# Altium footprint library YaoPCB.PCBLIB: 415 footprints (part 12 of 26)
Each footprint in its own frame and in the unit in brackets; x right, y up, seen from the top. Pads: shape width x height; smd on the part's side, far side on the other; paste and mask are expansions set on the pad; w line width, h text height; cw(c..) or ccw(c..) is an arc to the next point about the centre after c.
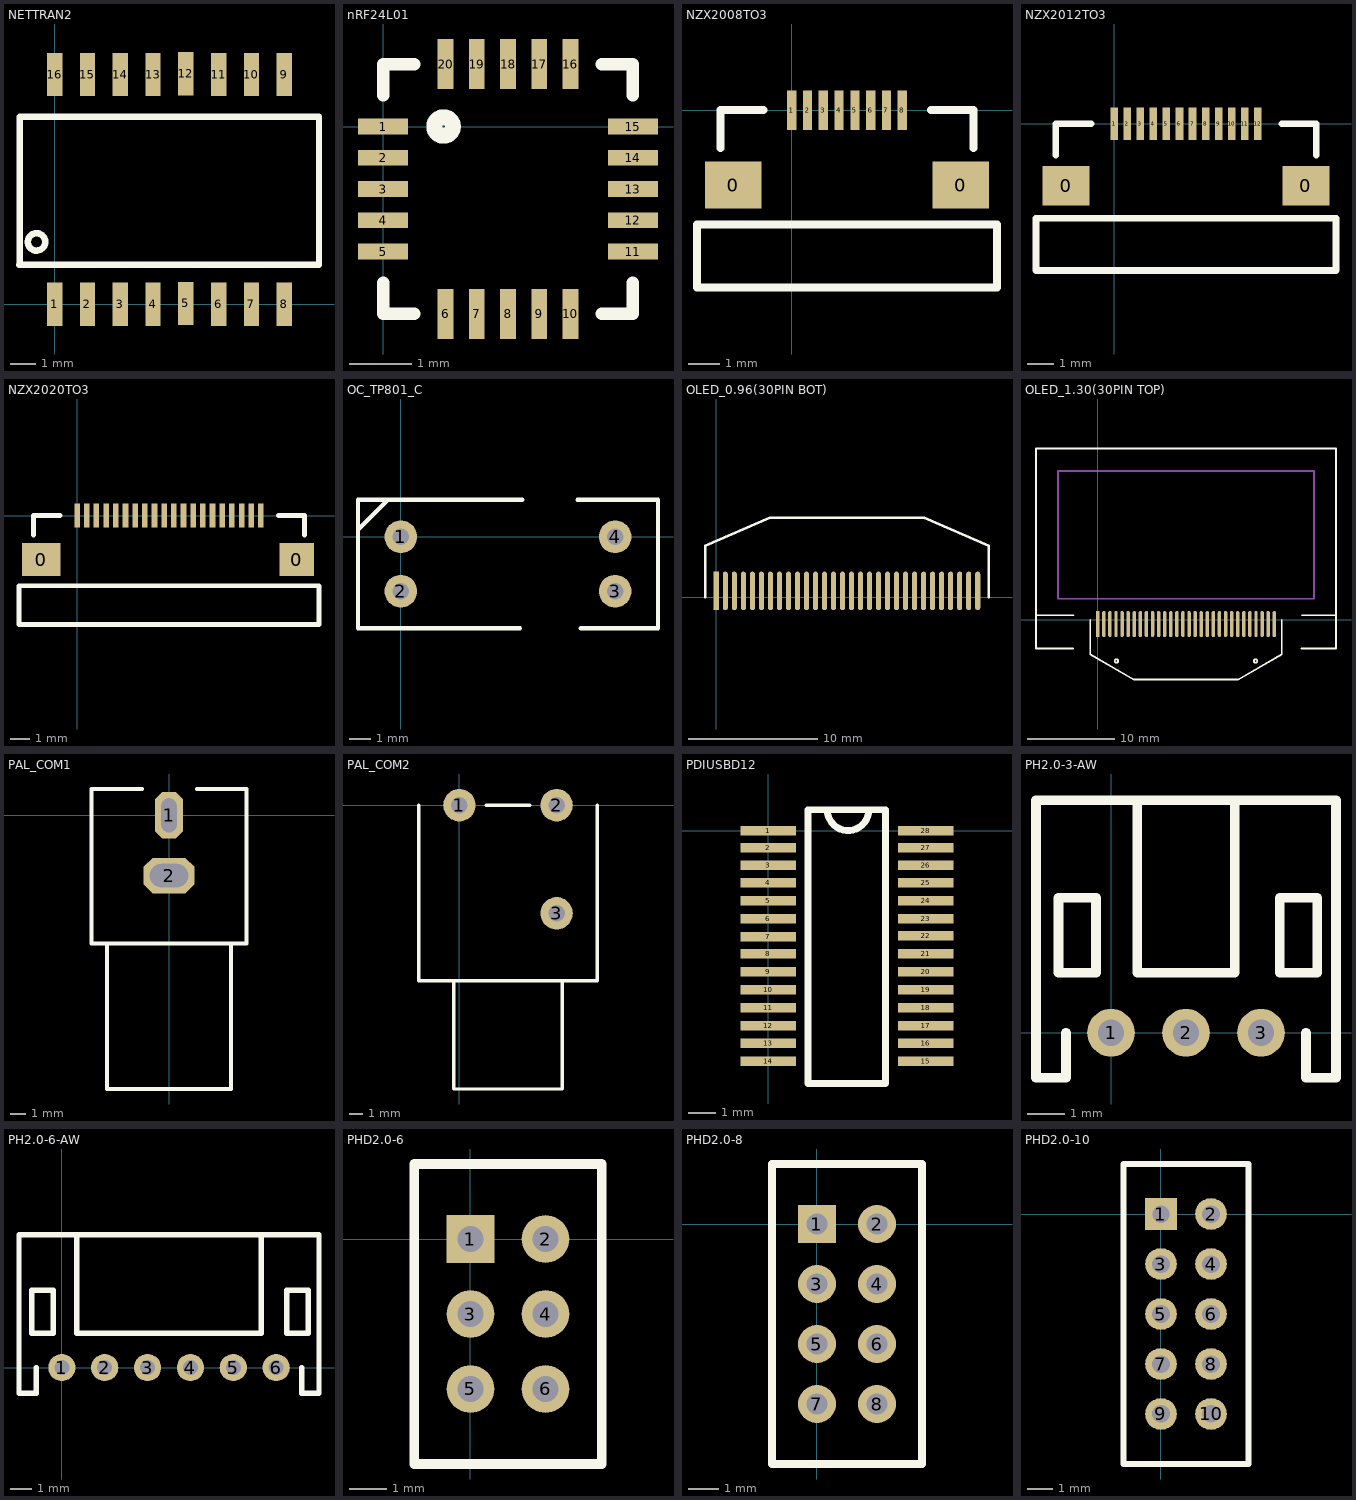
[diagram p11: the footprints below, top view; thin cyan lines are the x and y axes]

## NETTRAN2 [mm]
pads (16):
  rect 0.6x1.7 smd: 1(0,0) 2(1.286,0) 3(2.571,0) 4(3.857,0) 5(5.143,0.025) 6(6.429,0) 7(7.714,0) 8(9,0) 9(9,9) 10(7.714,9) 11(6.429,9) 12(5.143,9.025) 13(3.857,9) 14(2.571,9) 15(1.286,9) 16(0,9)
TopOverlay:
  circle w0.254: c-0.711,2.438 r0.342
  lines w0.254: -1.397,1.55 10.362,1.55 10.362,7.342 -1.372,7.342 -1.372,1.55

## nRF24L01 [mm]
pads (20):
  rect 0.8x0.25 smd: 1(0,0) 2(0,-0.5) 3(0,-1) 4(0,-1.5) 5(0,-2) 11(4,-2) 12(4,-1.5) 13(4,-1) 14(4,-0.5) 15(4,0)
  rect 0.25x0.8 smd: 6(1,-3) 7(1.5,-3) 8(2,-3) 9(2.5,-3) 10(3,-3) 16(3,1) 17(2.5,1) 18(2,1) 19(1.5,1) 20(1,1)
TopOverlay:
  circle w0.254: c0.969,0 r0.148
  lines w0.2: 0,-2.5 0,-3 0.5,-3 ; 0,0.5 0,1 0.5,1 ; 3.5,-3 4,-3 4,-2.5 ; 3.5,1 4,1 4,0.5

## NZX2008TO3 [mm]
pads (10):
  rect 1.8x1.5 smd: 0(-1.85,-2.375) 0(5.35,-2.375)
  rect 0.29x1.25 smd: 1(0,0) 2(0.5,0) 3(1,0) 4(1.5,0) 5(2,0) 6(2.5,0) 7(3,0) 8(3.5,0)
TopOverlay:
  lines w0.254: -2.25,-1.2 -2.25,0 -0.889,0 ; 4.414,0 5.75,0 5.75,-1.2 ; -3,-5.625 6.5,-5.625 6.5,-3.625 -3,-3.625 -3,-5.625

## NZX2012TO3 [mm]
pads (14):
  rect 1.8x1.5 smd: 0(-1.85,-2.375) 0(7.35,-2.375)
  rect 0.29x1.25 smd: 1(0,0) 2(0.5,0) 3(1,0) 4(1.5,0) 5(2,0) 6(2.5,0) 7(3,0) 8(3.5,0) 9(4,0) 10(4.5,0) 11(5,0) 12(5.5,0)
TopOverlay:
  lines w0.254: -2.25,-1.2 -2.25,0 -0.889,0 ; 6.414,0 7.75,0 7.75,-1.2 ; -3,-5.625 -3,-3.625 8.5,-3.625 8.5,-5.625 -3,-5.625

## NZX2020TO3 [mm]
pads (22):
  rect 2x1.7 smd: 0(-1.85,-2.275)
  rect 1.8x1.7 smd: 0(11.35,-2.275)
  rect 0.29x1.25 smd: 1(0,0) 2(0.5,0) 3(1,0) 4(1.5,0) 5(2,0) 6(2.5,0) 7(3,0) 8(3.5,0) 9(4,0) 10(4.5,0) 11(5,0) 12(5.5,0) 13(6,0) 14(6.5,0) 15(7,0) 16(7.5,0) 17(8,0) 18(8.5,0) 19(9,0) 20(9.5,0)
TopOverlay:
  lines w0.254: -2.25,-1 -2.25,0 -0.889,0 ; 10.414,0 11.75,0 11.75,-1 ; -3,-5.625 12.5,-5.625 12.5,-3.625 -3,-3.625 -3,-5.625

## OC_TP801_C [mil]
pads (4):
  round 60 hole 30: 1(0,0) 2(0,-100) 3(393.7,-100) 4(393.7,0)
TopOverlay:
  lines w7.99: -78.74,12.99 -23.62,68.11 -16.54,68.11 ; 218.9,-168.11 -78.74,-168.11 -78.74,68.11 222.83,68.11 ; 324.41,68.11 472.44,68.11 472.44,-168.11 330.71,-168.11

## OLED_0.96(30PIN BOT) [mm]
pads (30):
  rect 0.4x3 smd: 1(0,0.5)
  oval 0.4x3 smd: 2(0.7,0.5) 3(1.4,0.5) 4(2.1,0.5) 5(2.8,0.5) 6(3.5,0.5) 7(4.2,0.5) 8(4.9,0.5) 9(5.6,0.5) 10(6.3,0.5) 11(7,0.5) 12(7.7,0.5) 13(8.4,0.5) 14(9.1,0.5) 15(9.8,0.5) 16(10.5,0.5) 17(11.2,0.5) 18(11.9,0.5) 19(12.6,0.5) 20(13.3,0.5) 21(14,0.5) 22(14.7,0.5) 23(15.4,0.5) 24(16.1,0.5) 25(16.8,0.5) 26(17.5,0.5) 27(18.2,0.5) 28(18.9,0.5) 29(19.6,0.5) 30(20.3,0.5)
TopOverlay:
  lines w0.2: -0.85,0 -0.85,4 4.15,6.18 16.15,6.18 21.15,4 21.15,0

## OLED_1.30(30PIN TOP) [mm]
pads (30):
  rect 0.4x3 smd: 1(0,-0.5)
  oval 0.4x3 smd: 2(0.7,-0.5) 3(1.4,-0.5) 4(2.1,-0.5) 5(2.8,-0.5) 6(3.5,-0.5) 7(4.2,-0.5) 8(4.9,-0.5) 9(5.6,-0.5) 10(6.3,-0.5) 11(7,-0.5) 12(7.7,-0.5) 13(8.4,-0.5) 14(9.1,-0.5) 15(9.8,-0.5) 16(10.5,-0.5) 17(11.2,-0.5) 18(11.9,-0.5) 19(12.6,-0.5) 20(13.3,-0.5) 21(14,-0.5) 22(14.7,-0.5) 23(15.4,-0.5) 24(16.1,-0.5) 25(16.8,-0.5) 26(17.5,-0.5) 27(18.2,-0.5) 28(18.9,-0.5) 29(19.6,-0.5) 30(20.3,-0.5)
TopOverlay:
  circle w0.2: c2.15,-4.75 r0.2
  circle w0.2: c18.15,-4.75 r0.2
  lines w0.2: -7.1,0.5 -2.76,0.5 ; -2.82,-3.3 -7.1,-3.3 -7.1,19.7 27.4,19.7 27.4,-3.3 23.42,-3.3 ; -0.85,0 -0.85,-4 4.15,-6.887 16.15,-6.887 21.15,-4 21.15,0 ; 23.45,0.5 27.4,0.5
Mechanical15:
  lines w0.2: -4.56,2.4 24.86,2.4 24.86,17.1 -4.56,17.1 -4.56,2.4

## PAL_COM1 [mm]
pads (2):
  oct 1.8x3 hole 1 slot 2.2 at 90 deg: 1(0,0)
  oct 3.3x2.3 hole 1.5 slot 2.5 at 0 deg: 2(0,-3.9)
TopOverlay:
  lines w0.254: -4,-8.3 -4,-17.7 4,-17.7 4,-8.3 ; -1.73,1.7 -5,1.7 -5,-8.3 5,-8.3 5,1.7 1.81,1.7

## PAL_COM2 [mm]
pads (3):
  round 2.4 hole 1.2: 1(0,0) 2(7.2,0) 3(7.2,-8)
TopOverlay:
  lines w0.254: -3,0 -3,-13 10.2,-13 10.2,0 ; -0.4,-13 -0.4,-21 7.6,-21 7.6,-13 ; 2,0 5.2,0

## PDIUSBD12 [mil]
pads (28):
  rect 80x13.78 smd: 1(0,0) 2(0,-25) 3(0,-50) 4(0,-75) 5(0,-101) 6(0,-127) 7(0,-153) 8(0,-178) 9(0,-204) 10(0,-230) 11(0,-256) 12(0,-282) 13(0,-307) 14(0,-333) 15(227,-333) 16(227,-307) 17(227,-282) 18(227,-256) 19(227,-230) 20(227,-204) 21(227,-178) 22(227,-152) 23(227,-127) 24(227,-101) 25(227,-75) 26(227,-50) 27(227,-25) 28(227,0)
TopOverlay:
  lines w10: 85,30 ccw(c115,30) 145,30 ; 57.09,-365 57.09,30 169.29,30 169.29,-365 57.09,-365

## PH2.0-3-AW [mm]
pads (3):
  round 1.27 hole 0.7: 1(0,0) 2(2,0) 3(4,0)
TopOverlay:
  lines w0.254: -1.2,0 -1.2,-1.2 -2,-1.2 -2,6.2 6,6.2 6,-1.2 5.2,-1.2 5.2,0 ; 0.7,6.2 0.7,1.6 3.3,1.6 3.3,6.2 ; -1.4,1.6 -0.4,1.6 -0.4,3.6 -1.4,3.6 -1.4,1.6 ; 4.5,1.6 4.5,3.6 5.5,3.6 5.5,1.6 4.5,1.6

## PH2.0-6-AW [mm]
pads (6):
  round 1.27 hole 0.7: 1(0,0) 2(2,0) 3(4,0) 4(6,0) 5(8,0) 6(10,0)
TopOverlay:
  lines w0.254: -1.2,0 -1.2,-1.2 -2,-1.2 -2,6.2 12,6.2 12,-1.2 11.2,-1.2 11.2,0 ; 0.7,6.2 0.7,1.6 9.3,1.6 9.3,6.2 ; -1.4,1.6 -0.4,1.6 -0.4,3.6 -1.4,3.6 -1.4,1.6 ; 10.5,1.6 10.5,3.6 11.5,3.6 11.5,1.6 10.5,1.6

## PHD2.0-6 [mm]
pads (6):
  rect 1.27x1.27 hole 0.7: 1(0,0)
  round 1.27 hole 0.7: 2(2,0) 3(0,-2) 4(2,-2) 5(0,-4) 6(2,-4)
TopOverlay:
  lines w0.254: -1.5,-6 -1.5,2 3.5,2 3.5,-6 -1.5,-6

## PHD2.0-8 [mm]
pads (8):
  rect 1.27x1.27 hole 0.7: 1(0,0)
  round 1.27 hole 0.7: 2(2,0) 3(0,-2) 4(2,-2) 5(0,-4) 6(2,-4) 7(0,-6) 8(2,-6)
TopOverlay:
  lines w0.254: -1.5,-8 -1.5,2 3.5,2 3.5,-8 -1.5,-8

## PHD2.0-10 [mm]
pads (10):
  rect 1.27x1.27 hole 0.7: 1(0,0)
  round 1.27 hole 0.7: 2(2,0) 3(0,-2) 4(2,-2) 5(0,-4) 6(2,-4) 7(0,-6) 8(2,-6) 9(0,-8) 10(2,-8)
TopOverlay:
  lines w0.254: -1.5,-10 3.5,-10 3.5,2 -1.5,2 -1.5,-10